# Altium footprint library PcbLib.PcbLib: 1 footprints
Each footprint in its own frame and in the unit in brackets; x right, y up, seen from the top. Pads: shape width x height; smd on the part's side, far side on the other; paste and mask are expansions set on the pad; w line width, h text height; cw(c..) or ccw(c..) is an arc to the next point about the centre after c.
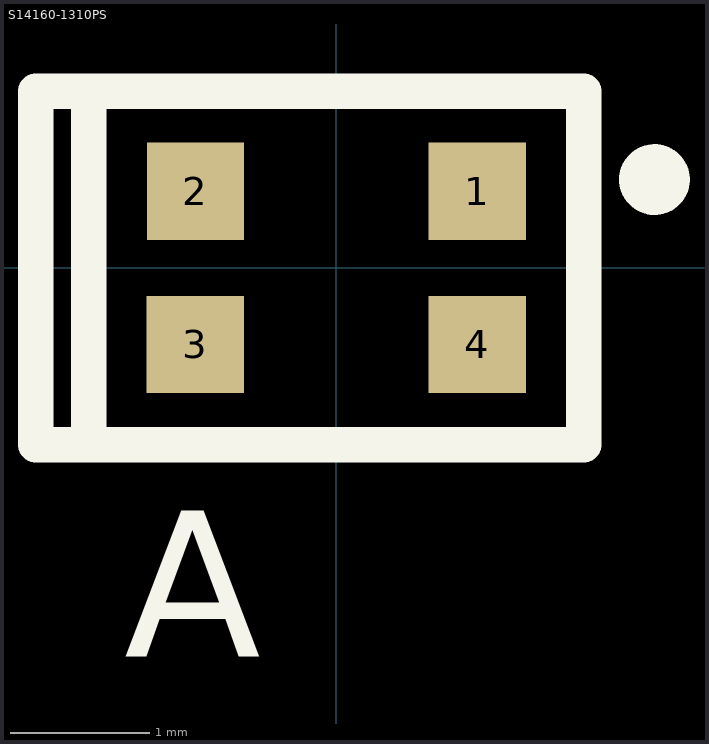
[diagram p0: the footprint, top view; thin cyan lines are the x and y axes]

## S14160-1310PS [mm]
pads (4):
  rect 0.7x0.7 smd: 1(1.012,0.55) 2(-1.012,0.55) 3(-1.012,-0.55) 4(1.012,-0.55)
Top Overlay:
  circle w0.254: c2.286,0.635 r0.127
  lines w0.254: -1.778,-1.27 -1.778,1.27 ; -2.159,-1.27 -2.159,1.27 1.778,1.27 1.778,-1.27 -2.159,-1.27
  text "A" at -1.524,-2.794 h1.2
3D body: height 0.85, standoff 0, extent -1.315,-1.05 1.315,1.05